# Altium footprint library PCB - RELAY - VO617A.PCBLIB: 1 footprints
Each footprint in its own frame and in the unit in brackets; x right, y up, seen from the top. Pads: shape width x height; smd on the part's side, far side on the other; paste and mask are expansions set on the pad; w line width, h text height; cw(c..) or ccw(c..) is an arc to the next point about the centre after c.
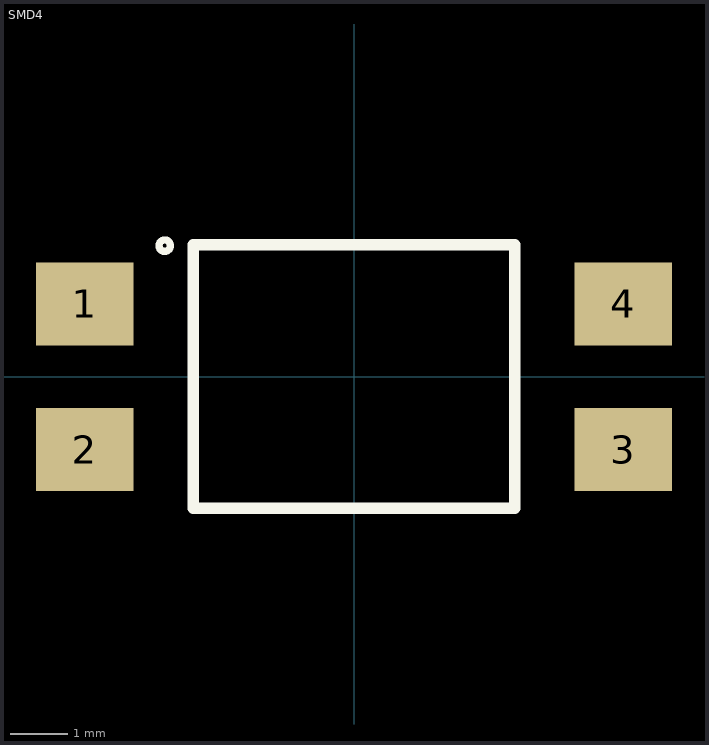
[diagram p0: the footprint, top view; thin cyan lines are the x and y axes]

## SMD4 [mm]
pads (4):
  rect 1.7x1.45 smd: 1(-4.7,1.27) 2(-4.7,-1.27) 3(4.7,-1.27) 4(4.7,1.27)
Top Overlay:
  circle w0.127: c-3.302,2.286 r0.1
  lines w0.2: -2.8,2.29 -2.8,-2.29 2.8,-2.29 2.8,2.29 ; -2.8,2.3 2.8,2.3
3D body "VO617A-2X017T.STEP": height 3.73, standoff 0.04, extent -5.08,-2.29 5.08,2.29